# Altium footprint library displays.PcbLib: 1 footprints
Each footprint in its own frame and in the unit in brackets; x right, y up, seen from the top. Pads: shape width x height; smd on the part's side, far side on the other; paste and mask are expansions set on the pad; w line width, h text height; cw(c..) or ccw(c..) is an arc to the next point about the centre after c.
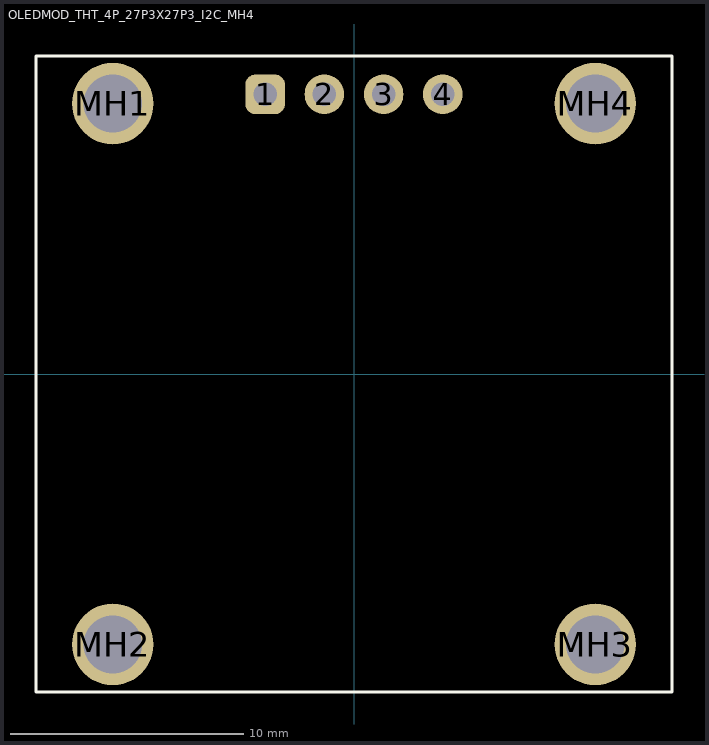
[diagram p0: the footprint, top view; thin cyan lines are the x and y axes]

## OLEDMOD_THT_4P_27P3X27P3_I2C_MH4 [mm]
pads (8):
  rrect50% 1.7x1.7 hole 1: 1(-3.81,12)
  round 1.7 hole 1: 2(-1.27,12) 3(1.27,12) 4(3.81,12)
  round 3.5 hole 2.5: MH1(-10.35,11.6) MH2(-10.35,-11.6) MH3(10.35,-11.6) MH4(10.35,11.6)
Top Overlay:
  lines w0.127: -13.65,-13.65 -13.65,13.65 13.65,13.65 13.65,-13.65 -13.65,-13.65
Mechanical 15:
  lines w0.05: -13.65,-13.65 -13.65,13.65 13.65,13.65 13.65,-13.65 -13.65,-13.65
3D body "step_temp.STEP": height 5.66, standoff -5.64, extent -13,-12.5 13,13.5